# Altium schematic symbol library Trans_50V.Schlib: 1 symbol
Pins are listed as number, name and electrical type; pins without a type are passive.

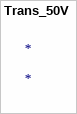
[diagram p0: symbol Trans_50V]

## Trans_50V
designator *